# Altium schematic symbol library LT8640S.Schlib: 1 symbol
Pins are listed as number, name and electrical type; pins without a type are passive.

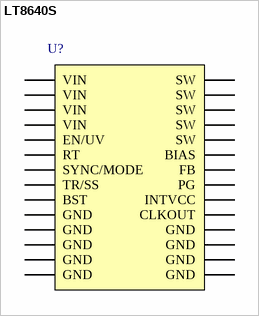
[diagram p0: symbol LT8640S]

## LT8640S
designator U?  (value not drawn)
SW Reg, Silent Switcher 2, low EMI
pins: 1 BIAS, 2 INTVCC, 3 GND, 3 GND, 4 GND, 5 VIN, 6 VIN, 7 BST, 8 SW, 9 SW, 10 SW, 11 SW, 12 SW, 13 VIN, 14 VIN, 15 GND, 16 GND, 17 EN/UV, 18 RT, 19 CLKOUT, 20 SYNC/MODE, 21 TR/SS, 23 PG, 24 FB, 25 GND, 26 GND, 27 GND, 28 GND